# EAGLE library part ERIC9 (library eRIC9)
eRIC9 Radio Transceiver !! Source: Datasheet <https://www.mouser.com/datasheet/2/743/lprs_eRIC9-FCC-1217491.pdf>
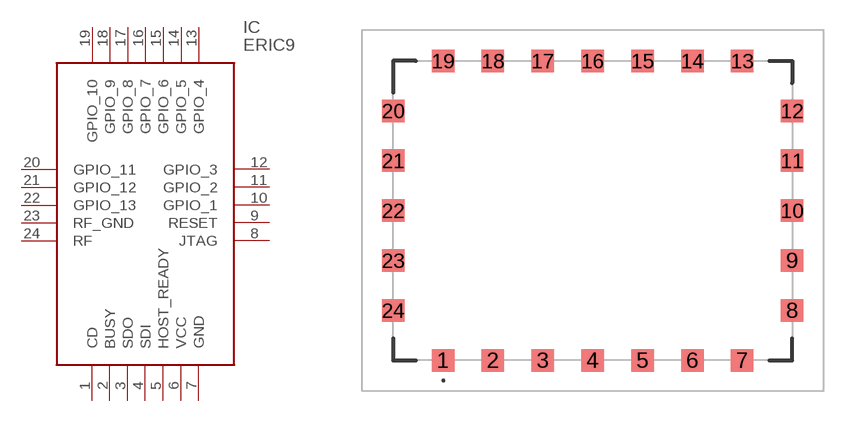
[diagram p0: symbol with the pads of eRIC9; footprint eRIC9]

Designator prefix IC

## ERIC9 (Description: eRIC9 Radio Transceiver !!; Height: 2mm; Manufacturer_Name: LPRS; Manufacturer_Part_Number: eRIC9)  [eRIC9]
1  CD
2  BUSY
3  SDO
4  SDI
5  HOST_READY
6  VCC
7  GND
8  JTAG
9  RESET
10  GPIO_1
11  GPIO_2
12  GPIO_3
13  GPIO_4
14  GPIO_5
15  GPIO_6
16  GPIO_7
17  GPIO_8
18  GPIO_9
19  GPIO_10
20  GPIO_11
21  GPIO_12
22  GPIO_13
23  RF_GND
24  RF

## Footprint eRIC9 (pad centres in mm)
eRIC9-1
smd 1.15 x 1.15: 1 -7.62,-7.62; 2 -5.08,-7.62; 3 -2.54,-7.62; 4 0,-7.62; 5 2.54,-7.62; 6 5.08,-7.62; 7 7.62,-7.62; 8 10.16,-5.08; 9 10.16,-2.54; 10 10.16,0; 11 10.16,2.54; 12 10.16,5.08; 13 7.62,7.62; 14 5.08,7.62; 15 2.54,7.62; 16 0,7.62; 17 -2.54,7.62; 18 -5.08,7.62; 19 -7.62,7.62; 20 -10.16,5.08; 21 -10.16,2.54; 22 -10.16,0; 23 -10.16,-2.54; 24 -10.16,-5.08